# Altium schematic symbol library SchematicLibLovro.SchLib: 3 symbols
Pins are listed as number, name and electrical type; pins without a type are passive.

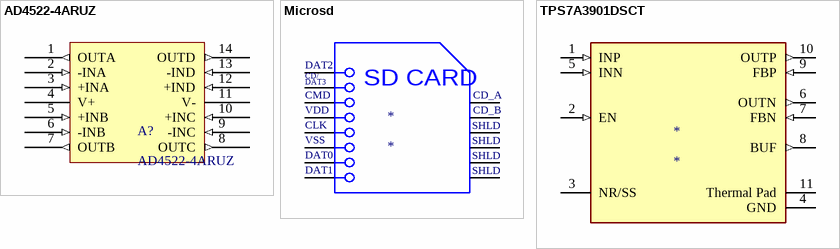
[diagram p0: symbols AD4522-4ARUZ to TPS7A3901DSCT]

## AD4522-4ARUZ
designator A?
footprint TSSOP14
pins: 1 OUTA (out), 2 -INA (in), 3 +INA (in), 4 V+ (power), 5 +INB (in), 6 -INB (in), 7 OUTB (out), 8 OUTC (out), 9 -INC (in), 10 +INC (in), 11 V- (power), 12 +IND (in), 13 -IND (in), 14 OUTD (out)

## Microsd
designator *
footprint Sdcard
pins: 1 DAT2, 2 CD/DAT3, 3 CMD, 4 VDD, 5 CLK, 6 VSS, 7 DAT0, 8 DAT1, 9 CD_A, 10 CD_B, 11 SHLD, 12 SHLD, 13 SHLD, 14 SHLD
text: CD/; DAT3; SD CARD

## TPS7A3901DSCT
designator *
footprint TPS7A3901DSCT
pins: 1 INP (in), 2 EN (in), 3 NR/SS, 4 GND (power), 5 INN (in), 6 OUTN (out), 7 FBN (in), 8 BUF (out), 9 FBP (in), 10 OUTP (out), 11 Thermal Pad